# Altium footprint library Renesas Logic.PcbLib: 85 footprints (part 1 of 6)
Each footprint in its own frame and in the unit in brackets; x right, y up, seen from the top. Pads: shape width x height; smd on the part's side, far side on the other; paste and mask are expansions set on the pad; w line width, h text height; cw(c..) or ccw(c..) is an arc to the next point about the centre after c.
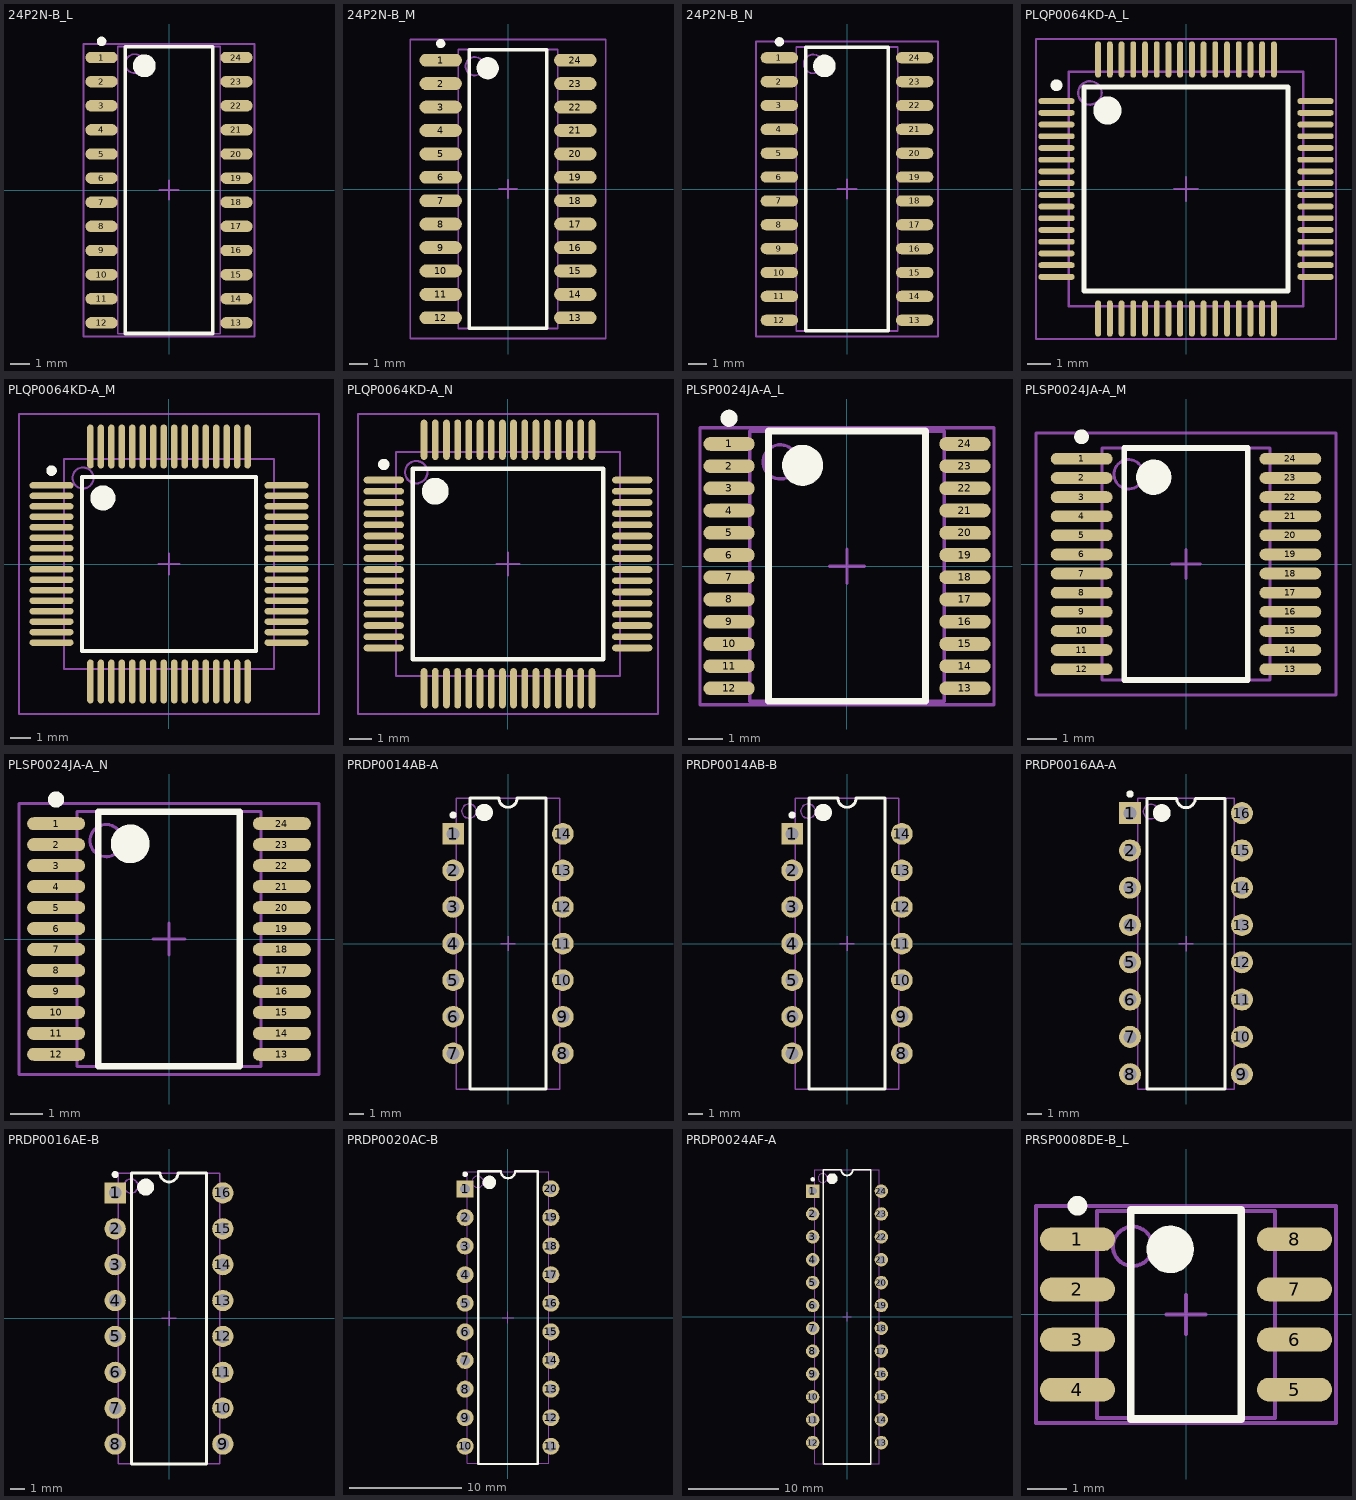
[diagram p0: the footprints below, top view; thin cyan lines are the x and y axes]

## 24P2N-B_L [mm] "SOP, 24-Leads, Body 15x5.3mm, Pitch 1.27mm, IPC High Density"
height 2.1
pads (24):
  oval 1.7x0.6 smd: 1(-3.55,6.985) 2(-3.55,5.715) 3(-3.55,4.445) 4(-3.55,3.175) 5(-3.55,1.905) 6(-3.55,0.635) 7(-3.55,-0.635) 8(-3.55,-1.905) 9(-3.55,-3.175) 10(-3.55,-4.445) 11(-3.55,-5.715) 12(-3.55,-6.985) 13(3.55,-6.985) 14(3.55,-5.715) 15(3.55,-4.445) 16(3.55,-3.175) 17(3.55,-1.905) 18(3.55,-0.635) 19(3.55,0.635) 20(3.55,1.905) 21(3.55,3.175) 22(3.55,4.445) 23(3.55,5.715) 24(3.55,6.985)
Top Overlay:
  circle w0.6: c-1.3,6.55 r0.3
  circle w0.25: c-3.55,7.835 r0.125
  lines w0.2: -2.3,-7.55 2.3,-7.55 2.3,7.55 -2.3,7.55 -2.3,-7.55
Mechanical 13:
  circle w0.1: c-1.8,6.66 r0.5
  lines w0.1: -2.7,-7.56 2.7,-7.56 2.7,7.56 -2.7,7.56 -2.7,-7.56
Mechanical 15:
  lines w0.1: -0.5,0 0.5,0 ; 0,-0.5 0,0.5 ; -4.5,-7.7 4.5,-7.7 4.5,7.7 -4.5,7.7 -4.5,-7.7
3D body: height 2.1, standoff 0, extent -2.7,-7.56 2.7,7.56

## 24P2N-B_M [mm] "SOP, 24-Leads, Body 15x5.3mm, Pitch 1.27mm, IPC Low Density"
height 2.1
pads (24):
  oval 2.3x0.7 smd: 1(-3.65,6.985) 2(-3.65,5.715) 3(-3.65,4.445) 4(-3.65,3.175) 5(-3.65,1.905) 6(-3.65,0.635) 7(-3.65,-0.635) 8(-3.65,-1.905) 9(-3.65,-3.175) 10(-3.65,-4.445) 11(-3.65,-5.715) 12(-3.65,-6.985) 13(3.65,-6.985) 14(3.65,-5.715) 15(3.65,-4.445) 16(3.65,-3.175) 17(3.65,-1.905) 18(3.65,-0.635) 19(3.65,0.635) 20(3.65,1.905) 21(3.65,3.175) 22(3.65,4.445) 23(3.65,5.715) 24(3.65,6.985)
Top Overlay:
  circle w0.6: c-1.1,6.55 r0.3
  circle w0.25: c-3.65,7.885 r0.125
  lines w0.2: -2.1,-7.55 2.1,-7.55 2.1,7.55 -2.1,7.55 -2.1,-7.55
Mechanical 13:
  circle w0.1: c-1.8,6.66 r0.5
  lines w0.1: -2.7,-7.56 2.7,-7.56 2.7,7.56 -2.7,7.56 -2.7,-7.56
Mechanical 15:
  lines w0.1: -0.5,0 0.5,0 ; 0,-0.5 0,0.5 ; -5.3,-8.1 5.3,-8.1 5.3,8.1 -5.3,8.1 -5.3,-8.1
3D body: height 2.1, standoff 0, extent -2.7,-7.56 2.7,7.56

## 24P2N-B_N [mm] "SOP, 24-Leads, Body 15x5.3mm, Pitch 1.27mm, IPC Medium Density"
height 2.1
pads (24):
  oval 2x0.6 smd: 1(-3.6,6.985) 2(-3.6,5.715) 3(-3.6,4.445) 4(-3.6,3.175) 5(-3.6,1.905) 6(-3.6,0.635) 7(-3.6,-0.635) 8(-3.6,-1.905) 9(-3.6,-3.175) 10(-3.6,-4.445) 11(-3.6,-5.715) 12(-3.6,-6.985) 13(3.6,-6.985) 14(3.6,-5.715) 15(3.6,-4.445) 16(3.6,-3.175) 17(3.6,-1.905) 18(3.6,-0.635) 19(3.6,0.635) 20(3.6,1.905) 21(3.6,3.175) 22(3.6,4.445) 23(3.6,5.715) 24(3.6,6.985)
Top Overlay:
  circle w0.25: c-3.6,7.835 r0.125
  circle w0.6: c-1.2,6.55 r0.3
  lines w0.2: -2.2,-7.55 -2.2,7.55 2.2,7.55 2.2,-7.55 -2.2,-7.55
Mechanical 13:
  circle w0.1: c-1.8,6.66 r0.5
  lines w0.1: -2.7,-7.56 -2.7,7.56 2.7,7.56 2.7,-7.56 -2.7,-7.56
Mechanical 15:
  lines w0.1: -0.5,0 0.5,0 ; 0,-0.5 0,0.5 ; -4.85,-7.85 -4.85,7.85 4.85,7.85 4.85,-7.85 -4.85,-7.85
3D body: height 2.1, standoff 0, extent -2.7,-7.56 2.7,7.56

## PLQP0064KD-A_L [mm] "Shrink QFP, 64-Leads, Body 10x10mm, Pitch 0.5mm, IPC High Density"
height 1.7
pads (64):
  oval 1.55x0.25 smd: 1(-5.525,3.75) 2(-5.525,3.25) 3(-5.525,2.75) 4(-5.525,2.25) 5(-5.525,1.75) 6(-5.525,1.25) 7(-5.525,0.75) 8(-5.525,0.25) 9(-5.525,-0.25) 10(-5.525,-0.75) 11(-5.525,-1.25) 12(-5.525,-1.75) 13(-5.525,-2.25) 14(-5.525,-2.75) 15(-5.525,-3.25) 16(-5.525,-3.75) 33(5.525,-3.75) 34(5.525,-3.25) 35(5.525,-2.75) 36(5.525,-2.25) 37(5.525,-1.75) 38(5.525,-1.25) 39(5.525,-0.75) 40(5.525,-0.25) 41(5.525,0.25) 42(5.525,0.75) 43(5.525,1.25) 44(5.525,1.75) 45(5.525,2.25) 46(5.525,2.75) 47(5.525,3.25) 48(5.525,3.75)
  oval 0.25x1.55 smd: 17(-3.75,-5.525) 18(-3.25,-5.525) 19(-2.75,-5.525) 20(-2.25,-5.525) 21(-1.75,-5.525) 22(-1.25,-5.525) 23(-0.75,-5.525) 24(-0.25,-5.525) 25(0.25,-5.525) 26(0.75,-5.525) 27(1.25,-5.525) 28(1.75,-5.525) 29(2.25,-5.525) 30(2.75,-5.525) 31(3.25,-5.525) 32(3.75,-5.525) 49(3.75,5.525) 50(3.25,5.525) 51(2.75,5.525) 52(2.25,5.525) 53(1.75,5.525) 54(1.25,5.525) 55(0.75,5.525) 56(0.25,5.525) 57(-0.25,5.525) 58(-0.75,5.525) 59(-1.25,5.525) 60(-1.75,5.525) 61(-2.25,5.525) 62(-2.75,5.525) 63(-3.25,5.525) 64(-3.75,5.525)
Top Overlay:
  circle w0.25: c-5.525,4.425 r0.125
  circle w0.6: c-3.35,3.35 r0.3
  lines w0.2: -4.35,-4.35 -4.35,4.35 4.35,4.35 4.35,-4.35 -4.35,-4.35
Mechanical 13:
  circle w0.1: c-4.1,4.1 r0.5
  lines w0.1: -5,-5 -5,5 5,5 5,-5 -5,-5
Mechanical 15:
  lines w0.1: -0.5,0 0.5,0 ; 0,-0.5 0,0.5 ; -6.4,-6.4 -6.4,6.4 6.4,6.4 6.4,-6.4 -6.4,-6.4
3D body: height 1.7, standoff 0, extent -5,-5 5,5

## PLQP0064KD-A_M [mm] "Shrink QFP, 64-Leads, Body 10x10mm, Pitch 0.5mm, IPC Low Density"
height 1.7
pads (64):
  oval 2.1x0.3 smd: 1(-5.6,3.75) 2(-5.6,3.25) 3(-5.6,2.75) 4(-5.6,2.25) 5(-5.6,1.75) 6(-5.6,1.25) 7(-5.6,0.75) 8(-5.6,0.25) 9(-5.6,-0.25) 10(-5.6,-0.75) 11(-5.6,-1.25) 12(-5.6,-1.75) 13(-5.6,-2.25) 14(-5.6,-2.75) 15(-5.6,-3.25) 16(-5.6,-3.75) 33(5.6,-3.75) 34(5.6,-3.25) 35(5.6,-2.75) 36(5.6,-2.25) 37(5.6,-1.75) 38(5.6,-1.25) 39(5.6,-0.75) 40(5.6,-0.25) 41(5.6,0.25) 42(5.6,0.75) 43(5.6,1.25) 44(5.6,1.75) 45(5.6,2.25) 46(5.6,2.75) 47(5.6,3.25) 48(5.6,3.75)
  oval 0.3x2.1 smd: 17(-3.75,-5.6) 18(-3.25,-5.6) 19(-2.75,-5.6) 20(-2.25,-5.6) 21(-1.75,-5.6) 22(-1.25,-5.6) 23(-0.75,-5.6) 24(-0.25,-5.6) 25(0.25,-5.6) 26(0.75,-5.6) 27(1.25,-5.6) 28(1.75,-5.6) 29(2.25,-5.6) 30(2.75,-5.6) 31(3.25,-5.6) 32(3.75,-5.6) 49(3.75,5.6) 50(3.25,5.6) 51(2.75,5.6) 52(2.25,5.6) 53(1.75,5.6) 54(1.25,5.6) 55(0.75,5.6) 56(0.25,5.6) 57(-0.25,5.6) 58(-0.75,5.6) 59(-1.25,5.6) 60(-1.75,5.6) 61(-2.25,5.6) 62(-2.75,5.6) 63(-3.25,5.6) 64(-3.75,5.6)
Top Overlay:
  circle w0.25: c-5.6,4.45 r0.125
  circle w0.6: c-3.15,3.15 r0.3
  lines w0.2: -4.15,-4.15 -4.15,4.15 4.15,4.15 4.15,-4.15 -4.15,-4.15
Mechanical 13:
  circle w0.1: c-4.1,4.1 r0.5
  lines w0.1: -5,-5 -5,5 5,5 5,-5 -5,-5
Mechanical 15:
  lines w0.1: -0.5,0 0.5,0 ; 0,-0.5 0,0.5 ; -7.15,-7.15 -7.15,7.15 7.15,7.15 7.15,-7.15 -7.15,-7.15
3D body: height 1.7, standoff 0, extent -5,-5 5,5

## PLQP0064KD-A_N [mm] "Shrink QFP, 64-Leads, Body 10x10mm, Pitch 0.5mm, IPC Medium Density"
height 1.7
pads (64):
  oval 1.8x0.3 smd: 1(-5.55,3.75) 2(-5.55,3.25) 3(-5.55,2.75) 4(-5.55,2.25) 5(-5.55,1.75) 6(-5.55,1.25) 7(-5.55,0.75) 8(-5.55,0.25) 9(-5.55,-0.25) 10(-5.55,-0.75) 11(-5.55,-1.25) 12(-5.55,-1.75) 13(-5.55,-2.25) 14(-5.55,-2.75) 15(-5.55,-3.25) 16(-5.55,-3.75) 33(5.55,-3.75) 34(5.55,-3.25) 35(5.55,-2.75) 36(5.55,-2.25) 37(5.55,-1.75) 38(5.55,-1.25) 39(5.55,-0.75) 40(5.55,-0.25) 41(5.55,0.25) 42(5.55,0.75) 43(5.55,1.25) 44(5.55,1.75) 45(5.55,2.25) 46(5.55,2.75) 47(5.55,3.25) 48(5.55,3.75)
  oval 0.3x1.8 smd: 17(-3.75,-5.55) 18(-3.25,-5.55) 19(-2.75,-5.55) 20(-2.25,-5.55) 21(-1.75,-5.55) 22(-1.25,-5.55) 23(-0.75,-5.55) 24(-0.25,-5.55) 25(0.25,-5.55) 26(0.75,-5.55) 27(1.25,-5.55) 28(1.75,-5.55) 29(2.25,-5.55) 30(2.75,-5.55) 31(3.25,-5.55) 32(3.75,-5.55) 49(3.75,5.55) 50(3.25,5.55) 51(2.75,5.55) 52(2.25,5.55) 53(1.75,5.55) 54(1.25,5.55) 55(0.75,5.55) 56(0.25,5.55) 57(-0.25,5.55) 58(-0.75,5.55) 59(-1.25,5.55) 60(-1.75,5.55) 61(-2.25,5.55) 62(-2.75,5.55) 63(-3.25,5.55) 64(-3.75,5.55)
Top Overlay:
  circle w0.25: c-5.55,4.45 r0.125
  circle w0.6: c-3.25,3.25 r0.3
  lines w0.2: -4.25,-4.25 -4.25,4.25 4.25,4.25 4.25,-4.25 -4.25,-4.25
Mechanical 13:
  circle w0.1: c-4.1,4.1 r0.5
  lines w0.1: -5,-5 -5,5 5,5 5,-5 -5,-5
Mechanical 15:
  lines w0.1: -0.5,0 0.5,0 ; 0,-0.5 0,0.5 ; -6.7,-6.7 -6.7,6.7 6.7,6.7 6.7,-6.7 -6.7,-6.7
3D body: height 1.7, standoff 0, extent -5,-5 5,5

## PLSP0024JA-A_L [mm] "SOP, 24-Leads, Body 7.8x5.6mm, Pitch 0.65mm, IPC High Density"
height 1.45
pads (24):
  oval 1.5x0.4 smd: 1(-3.45,3.575) 2(-3.45,2.925) 3(-3.45,2.275) 4(-3.45,1.625) 5(-3.45,0.975) 6(-3.45,0.325) 7(-3.45,-0.325) 8(-3.45,-0.975) 9(-3.45,-1.625) 10(-3.45,-2.275) 11(-3.45,-2.925) 12(-3.45,-3.575) 13(3.45,-3.575) 14(3.45,-2.925) 15(3.45,-2.275) 16(3.45,-1.625) 17(3.45,-0.975) 18(3.45,-0.325) 19(3.45,0.325) 20(3.45,0.975) 21(3.45,1.625) 22(3.45,2.275) 23(3.45,2.925) 24(3.45,3.575)
Top Overlay:
  circle w0.25: c-3.45,4.325 r0.125
  circle w0.6: c-1.3,2.95 r0.3
  lines w0.2: -2.3,-3.95 -2.3,3.95 2.3,3.95 2.3,-3.95 -2.3,-3.95
Mechanical 13:
  circle w0.1: c-1.95,3.05 r0.5
  lines w0.1: -2.85,-3.95 -2.85,3.95 2.85,3.95 2.85,-3.95 -2.85,-3.95
Mechanical 15:
  lines w0.1: -0.5,0 0.5,0 ; 0,-0.5 0,0.5 ; -4.3,-4.05 -4.3,4.05 4.3,4.05 4.3,-4.05 -4.3,-4.05
3D body: height 1.45, standoff 0, extent -2.85,-3.95 2.85,3.95

## PLSP0024JA-A_M [mm] "SOP, 24-Leads, Body 7.8x5.6mm, Pitch 0.65mm, IPC Low Density"
height 1.45
pads (24):
  oval 2.1x0.4 smd: 1(-3.55,3.575) 2(-3.55,2.925) 3(-3.55,2.275) 4(-3.55,1.625) 5(-3.55,0.975) 6(-3.55,0.325) 7(-3.55,-0.325) 8(-3.55,-0.975) 9(-3.55,-1.625) 10(-3.55,-2.275) 11(-3.55,-2.925) 12(-3.55,-3.575) 13(3.55,-3.575) 14(3.55,-2.925) 15(3.55,-2.275) 16(3.55,-1.625) 17(3.55,-0.975) 18(3.55,-0.325) 19(3.55,0.325) 20(3.55,0.975) 21(3.55,1.625) 22(3.55,2.275) 23(3.55,2.925) 24(3.55,3.575)
Top Overlay:
  circle w0.6: c-1.1,2.95 r0.3
  circle w0.25: c-3.55,4.325 r0.125
  lines w0.2: -2.1,-3.95 2.1,-3.95 2.1,3.95 -2.1,3.95 -2.1,-3.95
Mechanical 13:
  circle w0.1: c-1.95,3.05 r0.5
  lines w0.1: -2.85,-3.95 2.85,-3.95 2.85,3.95 -2.85,3.95 -2.85,-3.95
Mechanical 15:
  lines w0.1: -0.5,0 0.5,0 ; 0,-0.5 0,0.5 ; -5.1,-4.45 5.1,-4.45 5.1,4.45 -5.1,4.45 -5.1,-4.45
3D body: height 1.45, standoff 0, extent -2.85,-3.95 2.85,3.95

## PLSP0024JA-A_N [mm] "SOP, 24-Leads, Body 7.8x5.6mm, Pitch 0.65mm, IPC Medium Density"
height 1.45
pads (24):
  oval 1.8x0.4 smd: 1(-3.5,3.575) 2(-3.5,2.925) 3(-3.5,2.275) 4(-3.5,1.625) 5(-3.5,0.975) 6(-3.5,0.325) 7(-3.5,-0.325) 8(-3.5,-0.975) 9(-3.5,-1.625) 10(-3.5,-2.275) 11(-3.5,-2.925) 12(-3.5,-3.575) 13(3.5,-3.575) 14(3.5,-2.925) 15(3.5,-2.275) 16(3.5,-1.625) 17(3.5,-0.975) 18(3.5,-0.325) 19(3.5,0.325) 20(3.5,0.975) 21(3.5,1.625) 22(3.5,2.275) 23(3.5,2.925) 24(3.5,3.575)
Top Overlay:
  circle w0.25: c-3.5,4.325 r0.125
  circle w0.6: c-1.2,2.95 r0.3
  lines w0.2: -2.2,-3.95 -2.2,3.95 2.2,3.95 2.2,-3.95 -2.2,-3.95
Mechanical 13:
  circle w0.1: c-1.95,3.05 r0.5
  lines w0.1: -2.85,-3.95 -2.85,3.95 2.85,3.95 2.85,-3.95 -2.85,-3.95
Mechanical 15:
  lines w0.1: -0.5,0 0.5,0 ; 0,-0.5 0,0.5 ; -4.65,-4.2 -4.65,4.2 4.65,4.2 4.65,-4.2 -4.65,-4.2
3D body: height 1.45, standoff 0, extent -2.85,-3.95 2.85,3.95

## PRDP0014AB-A [mm] "DIP, 14-Leads, Row Spacing 7.62mm, Pitch 2.54mm, Body 19.2x6.3mm"
height 5.06
pads (14):
  rect 1.5x1.5 hole 0.9: 1(-3.81,7.62)
  round 1.5 hole 0.9: 2(-3.81,5.08) 3(-3.81,2.54) 4(-3.81,0) 5(-3.81,-2.54) 6(-3.81,-5.08) 7(-3.81,-7.62) 8(3.81,-7.62) 9(3.81,-5.08) 10(3.81,-2.54) 11(3.81,0) 12(3.81,2.54) 13(3.81,5.08) 14(3.81,7.62)
Top Overlay:
  circle w0.25: c-3.81,8.92 r0.125
  circle w0.6: c-1.65,9.1 r0.3
  lines w0.2: -2.65,-10.1 -2.65,10.1 -0.635,10.1 ccw(c0,10.1) 0.635,10.1 2.65,10.1 2.65,-10.1 -2.65,-10.1
Mechanical 13:
  circle w0.1: c-2.7,9.2 r0.5
  lines w0.1: -3.6,-10.1 -3.6,10.1 3.6,10.1 3.6,-10.1 -3.6,-10.1
Mechanical 15:
  lines w0.1: -0.5,0 0.5,0 ; 0,-0.5 0,0.5
3D body: height 5.06, standoff 0, extent -3.6,-10.1 3.6,10.1

## PRDP0014AB-B [mm] "DIP, 14-Leads, Row Spacing 7.62mm, Pitch 2.54mm, Body 19.2x6.3mm"
height 5.06
pads (14):
  rect 1.5x1.5 hole 0.9: 1(-3.81,7.62)
  round 1.5 hole 0.9: 2(-3.81,5.08) 3(-3.81,2.54) 4(-3.81,0) 5(-3.81,-2.54) 6(-3.81,-5.08) 7(-3.81,-7.62) 8(3.81,-7.62) 9(3.81,-5.08) 10(3.81,-2.54) 11(3.81,0) 12(3.81,2.54) 13(3.81,5.08) 14(3.81,7.62)
Top Overlay:
  circle w0.6: c-1.65,9.1 r0.3
  circle w0.25: c-3.81,8.92 r0.125
  lines w0.2: -2.65,-10.1 2.65,-10.1 2.65,10.1 0.635,10.1 cw(c0,10.1) -0.635,10.1 -2.65,10.1 -2.65,-10.1
Mechanical 13:
  circle w0.1: c-2.7,9.2 r0.5
  lines w0.1: -3.6,-10.1 3.6,-10.1 3.6,10.1 -3.6,10.1 -3.6,-10.1
Mechanical 15:
  lines w0.1: -0.5,0 0.5,0 ; 0,-0.5 0,0.5
3D body: height 5.06, standoff 0, extent -3.6,-10.1 3.6,10.1

## PRDP0016AA-A [mm] "DIP, 16-Leads, Row Spacing 7.62mm, Pitch 2.54mm, Body 19x6.3mm"
height 4.5
pads (16):
  rect 1.5x1.5 hole 0.9: 1(-3.81,8.89)
  round 1.5 hole 0.9: 2(-3.81,6.35) 3(-3.81,3.81) 4(-3.81,1.27) 5(-3.81,-1.27) 6(-3.81,-3.81) 7(-3.81,-6.35) 8(-3.81,-8.89) 9(3.81,-8.89) 10(3.81,-6.35) 11(3.81,-3.81) 12(3.81,-1.27) 13(3.81,1.27) 14(3.81,3.81) 15(3.81,6.35) 16(3.81,8.89)
Top Overlay:
  circle w0.25: c-3.81,10.19 r0.125
  circle w0.6: c-1.65,8.9 r0.3
  lines w0.2: -2.65,-9.9 -2.65,9.9 -0.635,9.9 ccw(c0,9.9) 0.635,9.9 2.65,9.9 2.65,-9.9 -2.65,-9.9
Mechanical 13:
  circle w0.1: c-2.4,9 r0.5
  lines w0.1: -3.3,-9.9 -3.3,9.9 3.3,9.9 3.3,-9.9 -3.3,-9.9
Mechanical 15:
  lines w0.1: -0.5,0 0.5,0 ; 0,-0.5 0,0.5
3D body: height 4.5, standoff 0, extent -3.3,-9.9 3.3,9.9

## PRDP0016AE-B [mm] "DIP, 16-Leads, Row Spacing 7.62mm, Pitch 2.54mm, Body 19.2x6.3mm"
height 5.06
pads (16):
  rect 1.5x1.5 hole 0.9: 1(-3.81,8.89)
  round 1.5 hole 0.9: 2(-3.81,6.35) 3(-3.81,3.81) 4(-3.81,1.27) 5(-3.81,-1.27) 6(-3.81,-3.81) 7(-3.81,-6.35) 8(-3.81,-8.89) 9(3.81,-8.89) 10(3.81,-6.35) 11(3.81,-3.81) 12(3.81,-1.27) 13(3.81,1.27) 14(3.81,3.81) 15(3.81,6.35) 16(3.81,8.89)
Top Overlay:
  circle w0.25: c-3.81,10.19 r0.125
  circle w0.6: c-1.65,9.3 r0.3
  lines w0.2: -2.65,-10.3 -2.65,10.3 -0.635,10.3 ccw(c0,10.3) 0.635,10.3 2.65,10.3 2.65,-10.3 -2.65,-10.3
Mechanical 13:
  circle w0.1: c-2.7,9.375 r0.5
  lines w0.1: -3.6,-10.275 -3.6,10.275 3.6,10.275 3.6,-10.275 -3.6,-10.275
Mechanical 15:
  lines w0.1: -0.5,0 0.5,0 ; 0,-0.5 0,0.5
3D body: height 5.06, standoff 0, extent -3.6,-10.275 3.6,10.275

## PRDP0020AC-B [mm] "DIP, 20-Leads, Row Spacing 7.62mm, Pitch 2.54mm, Body 24.5x6.3mm"
height 5.08
pads (20):
  rect 1.5x1.5 hole 0.9: 1(-3.81,11.43)
  round 1.5 hole 0.9: 2(-3.81,8.89) 3(-3.81,6.35) 4(-3.81,3.81) 5(-3.81,1.27) 6(-3.81,-1.27) 7(-3.81,-3.81) 8(-3.81,-6.35) 9(-3.81,-8.89) 10(-3.81,-11.43) 11(3.81,-11.43) 12(3.81,-8.89) 13(3.81,-6.35) 14(3.81,-3.81) 15(3.81,-1.27) 16(3.81,1.27) 17(3.81,3.81) 18(3.81,6.35) 19(3.81,8.89) 20(3.81,11.43)
Top Overlay:
  circle w0.25: c-3.81,12.73 r0.125
  circle w0.6: c-1.65,12 r0.3
  lines w0.2: -2.65,-13 -2.65,13 -0.635,13 ccw(c0,13) 0.635,13 2.65,13 2.65,-13 -2.65,-13
Mechanical 13:
  circle w0.1: c-2.7,12.05 r0.5
  lines w0.1: -3.6,-12.95 -3.6,12.95 3.6,12.95 3.6,-12.95 -3.6,-12.95
Mechanical 15:
  lines w0.1: -0.5,0 0.5,0 ; 0,-0.5 0,0.5
3D body: height 5.08, standoff 0, extent -3.6,-12.95 3.6,12.95

## PRDP0024AF-A [mm] "DIP, 24-Leads, Row Spacing 7.62mm, Pitch 2.54mm, Body 31.75x6.54mm"
height 5.33
pads (24):
  rect 1.5x1.5 hole 0.9: 1(-3.81,13.97)
  round 1.5 hole 0.9: 2(-3.81,11.43) 3(-3.81,8.89) 4(-3.81,6.35) 5(-3.81,3.81) 6(-3.81,1.27) 7(-3.81,-1.27) 8(-3.81,-3.81) 9(-3.81,-6.35) 10(-3.81,-8.89) 11(-3.81,-11.43) 12(-3.81,-13.97) 13(3.81,-13.97) 14(3.81,-11.43) 15(3.81,-8.89) 16(3.81,-6.35) 17(3.81,-3.81) 18(3.81,-1.27) 19(3.81,1.27) 20(3.81,3.81) 21(3.81,6.35) 22(3.81,8.89) 23(3.81,11.43) 24(3.81,13.97)
Top Overlay:
  circle w0.6: c-1.65,15.35 r0.3
  circle w0.25: c-3.81,15.27 r0.125
  lines w0.2: -2.65,-16.35 2.65,-16.35 2.65,16.35 0.635,16.35 cw(c0,16.35) -0.635,16.35 -2.65,16.35 -2.65,-16.35
Mechanical 13:
  circle w0.1: c-2.7,15.425 r0.5
  lines w0.1: -3.6,-16.325 3.6,-16.325 3.6,16.325 -3.6,16.325 -3.6,-16.325
Mechanical 15:
  lines w0.1: -0.5,0 0.5,0 ; 0,-0.5 0,0.5
3D body: height 5.33, standoff 0, extent -3.6,-16.325 3.6,16.325

## PRSP0008DE-B_L [mm] "SOP, 8-Leads, Body 4.85x4.4mm, Pitch 1.27mm, IPC High Density"
height 2.03
pads (8):
  oval 1.9x0.6 smd: 1(-2.75,1.905) 2(-2.75,0.635) 3(-2.75,-0.635) 4(-2.75,-1.905) 5(2.75,-1.905) 6(2.75,-0.635) 7(2.75,0.635) 8(2.75,1.905)
Top Overlay:
  circle w0.25: c-2.75,2.755 r0.125
  circle w0.6: c-0.4,1.65 r0.3
  lines w0.2: -1.4,-2.65 -1.4,2.65 1.4,2.65 1.4,-2.65 -1.4,-2.65
Mechanical 13:
  circle w0.1: c-1.35,1.725 r0.5
  lines w0.1: -2.25,-2.625 -2.25,2.625 2.25,2.625 2.25,-2.625 -2.25,-2.625
Mechanical 15:
  lines w0.1: -0.5,0 0.5,0 ; 0,-0.5 0,0.5 ; -3.8,-2.75 -3.8,2.75 3.8,2.75 3.8,-2.75 -3.8,-2.75
3D body: height 2.03, standoff 0, extent -2.25,-2.625 2.25,2.625